# Altium schematic symbol library Schlib_Erkon_NN.SchLib: 2 symbols
Pins are listed as number, name and electrical type; pins without a type are passive.

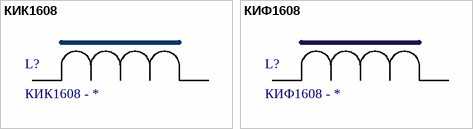
[diagram p0: symbols КИК1608 to КИФ1608]

## КИК1608
designator L?, comment КИК1608 - *
SMD Inductors; Manufacturer: АО "НПО "ЭРКОН"; RDC: * Ohm; Irms  Max: * mA; Inductance @ 100 MHz: * nH; ТУ: РКМУ.671340.001 ТУ; Part Number: КИК1608 - *; Package: 0603; Q: *
footprint KIK1608 (Filter 0603)
pins: 1, 2

## КИФ1608
designator L?, comment КИФ1608 - *
SMD Inductors; Manufacturer: АО "НПО "ЭРКОН"; RDC: * Ohm; Irms  Max: * mA; Inductance @ 100 MHz: * nH; ТУ: РКМУ.671340.001 ТУ; Part Number: КИФ1608 - *; Package: 0603; Q: *
footprint KIF1608 (Filter 0603)
pins: 1, 2